# Altium footprint library SLAB-QFN-64_V.PcbLib: 1 footprints
Each footprint in its own frame and in the unit in brackets; x right, y up, seen from the top. Pads: shape width x height; smd on the part's side, far side on the other; paste and mask are expansions set on the pad; w line width, h text height; cw(c..) or ccw(c..) is an arc to the next point about the centre after c.
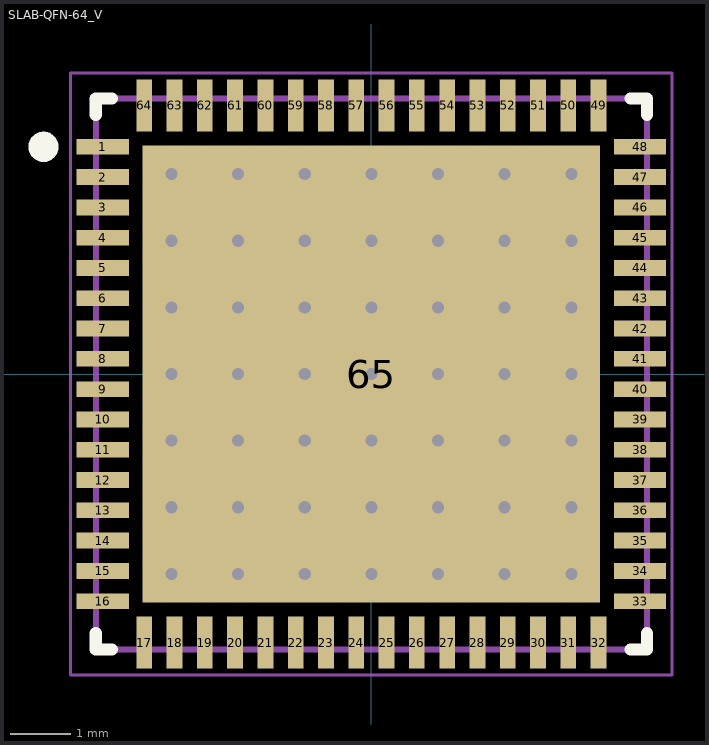
[diagram p0: the footprint, top view; thin cyan lines are the x and y axes]

## SLAB-QFN-64_V [mm] "QFN, 64-Leads, Body 9.1x9.1mm, Pitch 0.5mm, Thermal Pad 7.55x7.55mm"
height 0.9
pads (65):
  rect 0.86x0.26 smd mask+0.06: 1(-4.435,3.75) 2(-4.435,3.25) 3(-4.435,2.75) 4(-4.435,2.25) 5(-4.435,1.75) 6(-4.435,1.25) 7(-4.435,0.75) 8(-4.435,0.25) 9(-4.435,-0.25) 10(-4.435,-0.75) 11(-4.435,-1.25) 12(-4.435,-1.75) 13(-4.435,-2.25) 14(-4.435,-2.75) 15(-4.435,-3.25) 16(-4.435,-3.75) 33(4.435,-3.75) 34(4.435,-3.25) 35(4.435,-2.75) 36(4.435,-2.25) 37(4.435,-1.75) 38(4.435,-1.25) 39(4.435,-0.75) 40(4.435,-0.25) 41(4.435,0.25) 42(4.435,0.75) 43(4.435,1.25) 44(4.435,1.75) 45(4.435,2.25) 46(4.435,2.75) 47(4.435,3.25) 48(4.435,3.75)
  rect 0.26x0.86 smd mask+0.06: 17(-3.75,-4.435) 18(-3.25,-4.435) 19(-2.75,-4.435) 20(-2.25,-4.435) 21(-1.75,-4.435) 22(-1.25,-4.435) 23(-0.75,-4.435) 24(-0.25,-4.435) 25(0.25,-4.435) 26(0.75,-4.435) 27(1.25,-4.435) 28(1.75,-4.435) 29(2.25,-4.435) 30(2.75,-4.435) 31(3.25,-4.435) 32(3.75,-4.435) 49(3.75,4.435) 50(3.25,4.435) 51(2.75,4.435) 52(2.25,4.435) 53(1.75,4.435) 54(1.25,4.435) 55(0.75,4.435) 56(0.25,4.435) 57(-0.25,4.435) 58(-0.75,4.435) 59(-1.25,4.435) 60(-1.75,4.435) 61(-2.25,4.435) 62(-2.75,4.435) 63(-3.25,4.435) 64(-3.75,4.435)
  rect 7.55x7.55 smd paste-7.55 mask+0.06: 65(0,0)
via 3.3,-3.3 diameter 0.5 hole 0.2
via 3.3,-2.2 diameter 0.5 hole 0.2
via 3.3,-1.1 diameter 0.5 hole 0.2
via 3.3,0 diameter 0.5 hole 0.2
via 3.3,1.1 diameter 0.5 hole 0.2
via 3.3,2.2 diameter 0.5 hole 0.2
via 2.2,-3.3 diameter 0.5 hole 0.2
via 2.2,-2.2 diameter 0.5 hole 0.2
via 2.2,-1.1 diameter 0.5 hole 0.2
via 2.2,0 diameter 0.5 hole 0.2
via 2.2,1.1 diameter 0.5 hole 0.2
via 2.2,2.2 diameter 0.5 hole 0.2
via 2.2,3.3 diameter 0.5 hole 0.2
via 1.1,-3.3 diameter 0.5 hole 0.2
via 1.1,-2.2 diameter 0.5 hole 0.2
via 1.1,-1.1 diameter 0.5 hole 0.2
via 1.1,0 diameter 0.5 hole 0.2
via 1.1,1.1 diameter 0.5 hole 0.2
via 1.1,2.2 diameter 0.5 hole 0.2
via 1.1,3.3 diameter 0.5 hole 0.2
via 0,-3.3 diameter 0.5 hole 0.2
via 0,-2.2 diameter 0.5 hole 0.2
via 0,-1.1 diameter 0.5 hole 0.2
via 0,0 diameter 0.5 hole 0.2
via 0,1.1 diameter 0.5 hole 0.2
via 0,2.2 diameter 0.5 hole 0.2
via 0,3.3 diameter 0.5 hole 0.2
via -1.1,-3.3 diameter 0.5 hole 0.2
via -1.1,-2.2 diameter 0.5 hole 0.2
via -1.1,-1.1 diameter 0.5 hole 0.2
via -1.1,0 diameter 0.5 hole 0.2
via -1.1,1.1 diameter 0.5 hole 0.2
via -1.1,2.2 diameter 0.5 hole 0.2
via -1.1,3.3 diameter 0.5 hole 0.2
via -2.2,-3.3 diameter 0.5 hole 0.2
via -2.2,-2.2 diameter 0.5 hole 0.2
via -2.2,-1.1 diameter 0.5 hole 0.2
via -2.2,0 diameter 0.5 hole 0.2
via -2.2,1.1 diameter 0.5 hole 0.2
via -2.2,2.2 diameter 0.5 hole 0.2
via -2.2,3.3 diameter 0.5 hole 0.2
via -3.3,-3.3 diameter 0.5 hole 0.2
via -3.3,-2.2 diameter 0.5 hole 0.2
via -3.3,-1.1 diameter 0.5 hole 0.2
via -3.3,0 diameter 0.5 hole 0.2
via -3.3,1.1 diameter 0.5 hole 0.2
via -3.3,2.2 diameter 0.5 hole 0.2
via -3.3,3.3 diameter 0.5 hole 0.2
via 3.3,3.3 diameter 0.5 hole 0.2
Top Overlay:
  circle w0.25: c-5.415,3.75 r0.125
  lines w0.2: -4.55,-4.28 -4.55,-4.55 -4.28,-4.55 ; -4.55,4.28 -4.55,4.55 -4.28,4.55 ; 4.28,-4.55 4.55,-4.55 4.55,-4.28 ; 4.28,4.55 4.55,4.55 4.55,4.28
Top Paste:
  region: 0.1,-0.1 0.1,-1.35 1.35,-1.35 1.35,-0.1
  region: 0.1,1.35 0.1,0.1 1.35,0.1 1.35,1.35
  region: -1.35,-0.1 -1.35,-1.35 -0.1,-1.35 -0.1,-0.1
  region: -1.35,1.35 -1.35,0.1 -0.1,0.1 -0.1,1.35
  region: 1.35,-2.8 1.35,-1.55 0.1,-1.55 0.1,-2.8
  region: -1.35,2.8 -1.35,1.55 -0.1,1.55 -0.1,2.8
  region: 0.1,2.8 0.1,1.55 1.35,1.55 1.35,2.8
  region: -0.1,-2.8 -0.1,-1.55 -1.35,-1.55 -1.35,-2.8
  region: 2.8,2.8 1.55,2.8 1.55,1.55 2.8,1.55
  region: 2.8,1.35 1.55,1.35 1.55,0.1 2.8,0.1
  region: 2.8,-0.1 1.55,-0.1 1.55,-1.35 2.8,-1.35
  region: 2.8,-1.55 1.55,-1.55 1.55,-2.8 2.8,-2.8
  rectangle: -2.8,-2.8 -1.55,-1.55
  rectangle: -2.8,-1.35 -1.55,-0.1
  rectangle: -2.8,0.1 -1.55,1.35
  rectangle: -2.8,1.55 -1.55,2.8
Mechanical 13:
  lines w0.1: -4.55,-4.55 -4.55,4.55 4.55,4.55 4.55,-4.55 -4.55,-4.55
Mechanical 15:
  lines w0.05: -4.965,-4.965 4.965,-4.965 4.965,4.965 -4.965,4.965 -4.965,-4.965
  lines w0.1: -0.5,0 0.5,0 ; 0,-0.5 0,0.5
3D body: height 0.9, standoff 0, extent -4.55,-4.55 4.55,4.55